# Altium footprint library HDR2X10.PcbLib: 1 footprints
Each footprint in its own frame and in the unit in brackets; x right, y up, seen from the top. Pads: shape width x height; smd on the part's side, far side on the other; paste and mask are expansions set on the pad; w line width, h text height; cw(c..) or ccw(c..) is an arc to the next point about the centre after c.
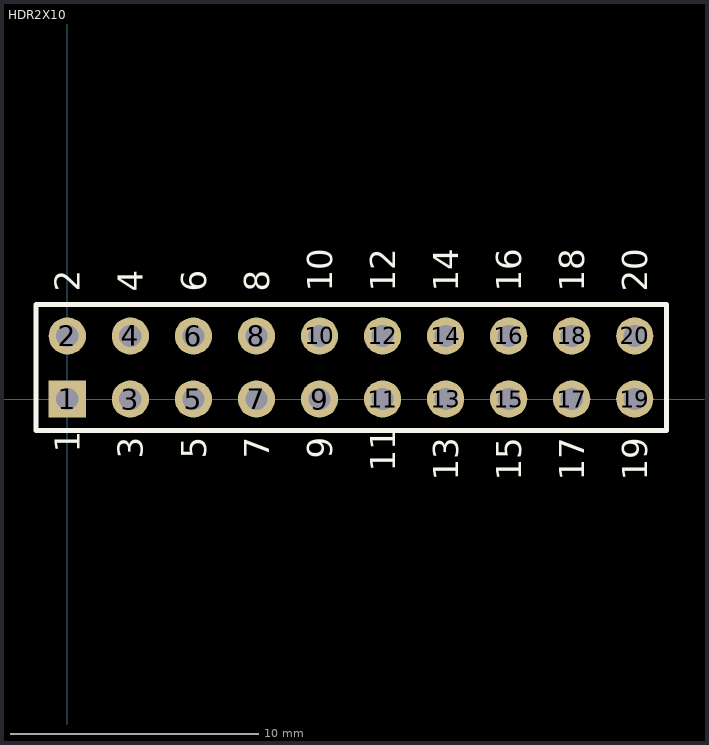
[diagram p0: the footprint, top view; thin cyan lines are the x and y axes]

## HDR2X10 [mm]
pads (20):
  rect 1.5x1.5 hole 0.9: 1(0,0)
  round 1.5 hole 0.9: 2(0,2.54) 3(2.54,0) 4(2.54,2.54) 5(5.08,0) 6(5.08,2.54) 7(7.62,0) 8(7.62,2.54) 9(10.16,0) 10(10.16,2.54) 11(12.7,0) 12(12.7,2.54) 13(15.24,0) 14(15.24,2.54) 15(17.78,0) 16(17.78,2.54) 17(20.32,0) 18(20.32,2.54) 19(22.86,0) 20(22.86,2.54)
Top Overlay:
  lines w0.2: -1.27,-1.27 -1.27,3.81 24.13,3.81 24.13,-1.27 -1.27,-1.27
  text "18" at 20.828,4.318 h1
  text "17" at 20.828,-3.302 h1
  text "14" at 15.748,4.318 h1
  text "13" at 15.748,-3.302 h1
  text "10" at 10.668,4.318 h1
  text "9" at 10.668,-2.413 h1
  text "8" at 8.128,4.318 h1
  text "7" at 8.128,-2.413 h1
  text "4" at 3.048,4.318 h1
  text "3" at 3.048,-2.413 h1
  text "5" at 5.588,-2.413 h1
  text "11" at 13.208,-2.921 h1
  text "15" at 18.288,-3.302 h1
  text "6" at 5.588,4.318 h1
  text "12" at 13.208,4.318 h1
  text "16" at 18.288,4.318 h1
  text "20" at 23.368,4.318 h1
  text "19" at 23.368,-3.302 h1
  text "1" at 0.508,-2.159 h1
  text "2" at 0.508,4.318 h1